# Altium schematic symbol library AUAV-X1_R1.SCHLIB: 36 symbols
Pins are listed as number, name and electrical type; pins without a type are passive.

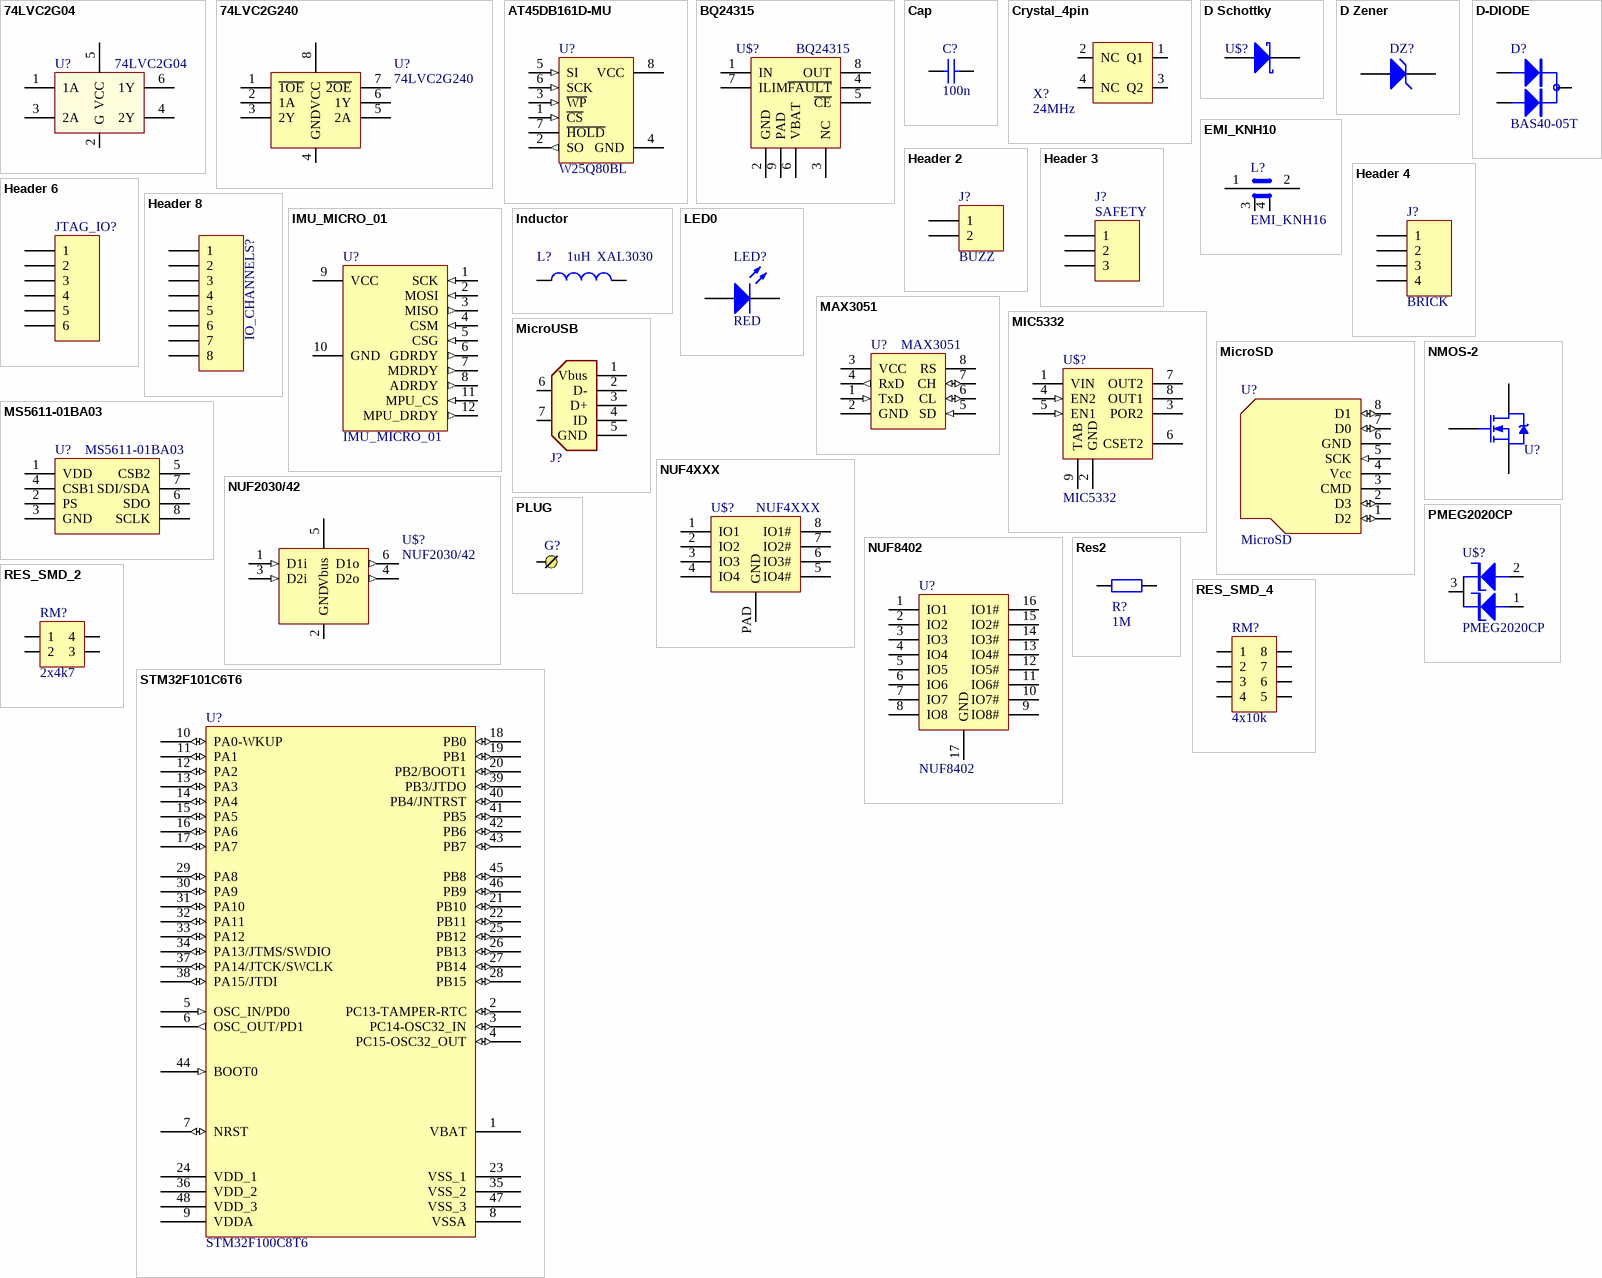
[diagram p0: symbols 74LVC2G04 to STM32F101C6T6]

## 74LVC2G04
designator U?
footprint SOT363_L (SOT363, 6-Leads, Body 2x1.3mm, Pitch 0.65mm, Lead Span 2.1mm, IPC High Density)
pins: 1 1A, 2 G (power), 3 2A, 4 2Y, 5 VCC (power), 6 1Y

## 74LVC2G240
designator U?
footprint VSON8
pins: 1 ~{1OE}, 2 1A, 3 2Y, 4 GND, 5 2A, 6 1Y, 7 ~{2OE}, 8 VCC

## AT45DB161D-MU
designator U?, comment W25Q80BL
footprint W25Q80BL_WSON5X6
pins: 1 ~{CS} (in), 2 SO (out), 3 ~{WP} (in), 4 GND (power), 5 SI (in), 6 SCK (in), 7 ~{HOLD}, 8 VCC (power)

## BQ24315
designator U$?
footprint BQ24315
pins: 1 IN (power), 2 GND, 3 NC, 4 ~{FAULT}, 5 ~{CE}, 6 VBAT, 7 ILIM, 8 OUT, 9 PAD

## Cap
designator C?, comment 100n
Capacitor; Value: 100pF; Published: 8-Jun-2000; LatestRevisionDate: 17-Jul-2002; LatestRevisionNote: Re-released for DXP Platform.; PackageReference: RAD-0.3; Publisher: Altium Limited
simulation model CAP (Capacitor)
signal-integrity model Cap
footprint 0402
footprint 0402A
pins: 1, 2

## Crystal_4pin
designator X?, comment 24MHz
footprint Crystal_2.5x2
pins: 1 Q1, 2 NC, 3 Q2, 4 NC

## D Schottky
designator U$?  (value not drawn)
Schottky Diode; Published: 8-Jun-2000; LatestRevisionDate: 17-Jul-2002; LatestRevisionNote: Re-released for DXP Platform.; PackageReference: SMB; Publisher: Altium Limited; Code_JEDEC: DO-214-AA
footprint SOD323F
simulation model SKYDIODE (Diode)
signal-integrity model D Schottky
pins: 1 A, 2 K

## D Zener
designator DZ?  (value not drawn)
Zener Diode; Published: 8-Jun-2000; LatestRevisionDate: 17-Jul-2002; LatestRevisionNote: Re-released for DXP Platform.; PackageReference: DIODE-0.7; Publisher: Altium Limited
footprint SOD-523
simulation model ZENER (Diode)
signal-integrity model D Zener
pins: 1 A, 2 K

## D-DIODE
designator D?, comment BAS40-05T
footprint SOT-523
pins: 1, 2, 3

## EMI_KNH10
designator L?, comment EMI_KNH16
footprint EMI_KNH16_0603
pins: 1 L1, 2 L2, 3 G (power), 4 G

## Header 2
designator J?, comment BUZZ
Header, 2-Pin; LatestRevisionDate: 17-Jul-2002; LatestRevisionNote: Re-released for DXP Platform.; Publisher: Altium Limited
footprint HDR1X2 (Connector; Header; 2 Position)
signal-integrity model Connector
pins: 1, 2

## Header 3
designator J?, comment SAFETY
Header, 3-Pin; LatestRevisionDate: 17-Jul-2002; LatestRevisionNote: Re-released for DXP Platform.; Publisher: Altium Limited
signal-integrity model Connector
footprint HDR1X3 (Connector; Header; 3 Position)
pins: 1, 2, 3

## Header 4
designator J?, comment BRICK
Header, 4-Pin; LatestRevisionDate: 17-Jul-2002; LatestRevisionNote: Re-released for DXP Platform.; Publisher: Altium Limited
footprint HDR1X4 (Connector; Header; 4 Position)
signal-integrity model Connector
pins: 1, 2, 3, 4

## Header 6
designator JTAG_IO?  (value not drawn)
Header, 6-Pin; LatestRevisionDate: 17-Jul-2002; LatestRevisionNote: Re-released for DXP Platform.; Publisher: Altium Limited
footprint JTAG_TC2030
signal-integrity model Connector
pins: 1, 2, 3, 4, 5, 6

## Header 8
designator IO_CHANNELS?  (value not drawn)
Header, 8-Pin; LatestRevisionDate: 17-Jul-2002; LatestRevisionNote: Re-released for DXP Platform.; Publisher: Altium Limited
footprint HDR1X8 (Connector; Header; 8 Position)
signal-integrity model Connector
pins: 1, 2, 3, 4, 5, 6, 7, 8

## IMU_MICRO_01
designator U?
footprint MicroIMU_01
pins: 1 SCK (in), 2 MOSI (in), 3 MISO (out), 4 CSM (in), 5 CSG (in), 6 GDRDY (out), 7 MDRDY (out), 8 ADRDY (out), 9 VCC (power), 10 GND (power), 11 MPU_CS (in), 12 MPU_DRDY (out)

## Inductor
designator L?, comment XAL3030  value 1uH
Inductor; Code_IEC: 1005; Published: 8-Jun-2000; LatestRevisionDate: 17-Jul-2002; LatestRevisionNote: Re-released for DXP Platform.; PackageReference: 0402-A; Publisher: Altium Limited; Code_JEITA: 0402
simulation model INDUCTOR (Inductor)
signal-integrity model Inductor
footprint XAL4040
pins: 1, 2

## LED0
designator LED?, comment RED
Typical INFRARED GaAs LED; Published: 8-Jun-2000; LatestRevisionDate: 08-Jul-2005; LatestRevisionNote: Mech Layer 1 removed.; PackageReference: LED-0; Publisher: Altium Limited
footprint 0603
simulation model LED0 (Diode)
footprint 0603A
pins: 1 A, 2 K

## MAX3051
designator U?
footprint SOT-23-8
pins: 1 TxD (in), 2 GND (power), 3 VCC (power), 4 RxD (out), 5 SD (in), 6 CL (io), 7 CH (io), 8 RS

## MIC5332
designator U$?
footprint MIC5332
pins: 1 VIN (power), 2 GND (power), 3 POR2, 4 EN2 (in), 5 EN1 (in), 6 CSET2, 7 OUT2, 8 OUT1, 9 TAB (power)

## MicroSD
designator U?
footprint MicroSD_China_01
pins: 1 D2 (io), 2 D3 (io), 3 CMD, 4 Vcc (power), 5 SCK (in), 6 GND (power), 7 D0 (io), 8 D1 (io)

## MicroUSB
designator J?, comment miniUSB  (value not drawn)
footprint USBmicro_B
pins: 1 Vbus (power), 2 D-, 3 D+, 4 ID, 5 GND (power), 6 GND, 7 GND

## MS5611-01BA03
designator U?
footprint MS5611
pins: 1 VDD (power), 2 PS, 3 GND (power), 4 CSB1, 5 CSB2, 6 SDO, 7 SDI/SDA, 8 SCLK

## NMOS-2
designator U?, comment ZXMN2F34MA  (value not drawn)
N-Channel Power MOSFET; Note: Pin 2 is electrically connected to pin 4.; Published: 8-Jun-2000; LatestRevisionDate: 17-Jul-2002; LatestRevisionNote: Re-released for DXP Platform.; DatasheetDocument: PD-9.814; PackageReference: TO-220AB; Publisher: Altium Limited; Code_JEDEC: TO-220-AB; ComponentLink1Description: Manufacturer Link; ComponentLink1URL: http://www.irf.com/
simulation model IRF1010 (Spice Subcircuit)
footprint 2N7002-SOT323
pins: 1 D, 2 S, 3 G

## NUF4XXX
designator U$?
footprint NUF4211
pins: 1 IO1, 2 IO2, 3 IO3, 4 IO4, 5 IO4#, 6 IO3#, 7 IO2#, 8 IO1#, PAD GND

## NUF2030/42
designator U$?
footprint NUF2030_SOT563
pins: 1 D1i (in), 2 GND (power), 3 D2i (in), 4 D2o (out), 5 Vbus (power), 6 D1o (out)

## NUF8402
designator U?
footprint NUF8402
pins: 1 IO1, 2 IO2, 3 IO3, 4 IO4, 5 IO5, 6 IO6, 7 IO7, 8 IO8, 9 IO8#, 10 IO7#, 11 IO6#, 12 IO5# (oc), 13 IO4# (oc), 14 IO3# (oc), 15 IO2#, 16 IO1#, 17 GND

## PLUG
designator G?  (value not drawn)
footprint PAD
footprint SMT_PAD_ROUND
pins: 1

## PMEG2020CP
designator U$?
footprint pmeg2020cp
pins: 1, 2, 3

## Res2
designator R?, comment 1M
Resistor; Value: 1K; Published: 8-Jun-2000; LatestRevisionDate: 17-Jul-2002; LatestRevisionNote: Re-released for DXP Platform.; PackageReference: AXIAL-0.4; Publisher: Altium Limited
simulation model RESISTOR (Resistor)
signal-integrity model Res
footprint 0402
footprint 0402A
pins: 1, 2

## RES_SMD_2
designator RM?, comment 2x4k7
footprint RM2_0804
pins: 1, 2, 3, 4

## RES_SMD_4
designator RM?, comment 4x10k
footprint RM4_0804
pins: 1, 2, 3, 4, 5, 6, 7, 8

## STM32F101C6T6
designator U?, comment STM32F100C8T6
STM32 ARM-based 32-bit MCU with 32 Kbytes Flash, 48-pin LQFP, Industrial Temperature; Published: 30-May-2008; DatasheetVersion: rev6, Mar-2008; PackageVersion: Mar-2008; PackageReference: LQFP48; Publisher: Altium Limited; PackageDescription: 48-Pin Low-Profile Quad Flat Pack, 7 x 7 mm Body, 0.5 mm Pitch (LQFP48); ComponentLink1Description: Manufacturer Link; ComponentLink1URL: www.st.com/stm32; ComponentLink2Description: Datasheet; ComponentLink2URL: http://www.st.com/stonline/products/literature/ds/13586.pdf
footprint LQFP48_N (Thin QFP, 48-Leads, Body 7x7mm, Pitch 0.5mm, IPC Medium Density)
footprint LQFP48_L (Thin QFP, 48-Leads, Body 7x7mm, Pitch 0.5mm, IPC High Density)
footprint LQFP48_M (Thin QFP, 48-Leads, Body 7x7mm, Pitch 0.5mm, IPC Low Density)
pins: 1 VBAT (power), 2 PC13-TAMPER-RTC (io), 3 PC14-OSC32_IN (io), 4 PC15-OSC32_OUT (io), 5 OSC_IN/PD0 (in), 6 OSC_OUT/PD1 (out), 7 NRST (io), 8 VSSA (power), 9 VDDA (power), 10 PA0-WKUP (io), 11 PA1 (io), 12 PA2 (io), 13 PA3 (io), 14 PA4 (io), 15 PA5 (io), 16 PA6 (io), 17 PA7 (io), 18 PB0 (io), 19 PB1 (io), 20 PB2/BOOT1 (io), 21 PB10 (io), 22 PB11 (io), 23 VSS_1 (power), 24 VDD_1 (power), 25 PB12 (io), 26 PB13 (io), 27 PB14 (io), 28 PB15 (io), 29 PA8 (io), 30 PA9 (io), 31 PA10 (io), 32 PA11 (io), 33 PA12 (io), 34 PA13/JTMS/SWDIO (io), 35 VSS_2 (power), 36 VDD_2 (power), 37 PA14/JTCK/SWCLK (io), 38 PA15/JTDI (io), 39 PB3/JTDO (io), 40 PB4/JNTRST (io), 41 PB5 (io), 42 PB6 (io), 43 PB7 (io), 44 BOOT0 (in), 45 PB8 (io), 46 PB9 (io), 47 VSS_3 (power), 48 VDD_3 (power)

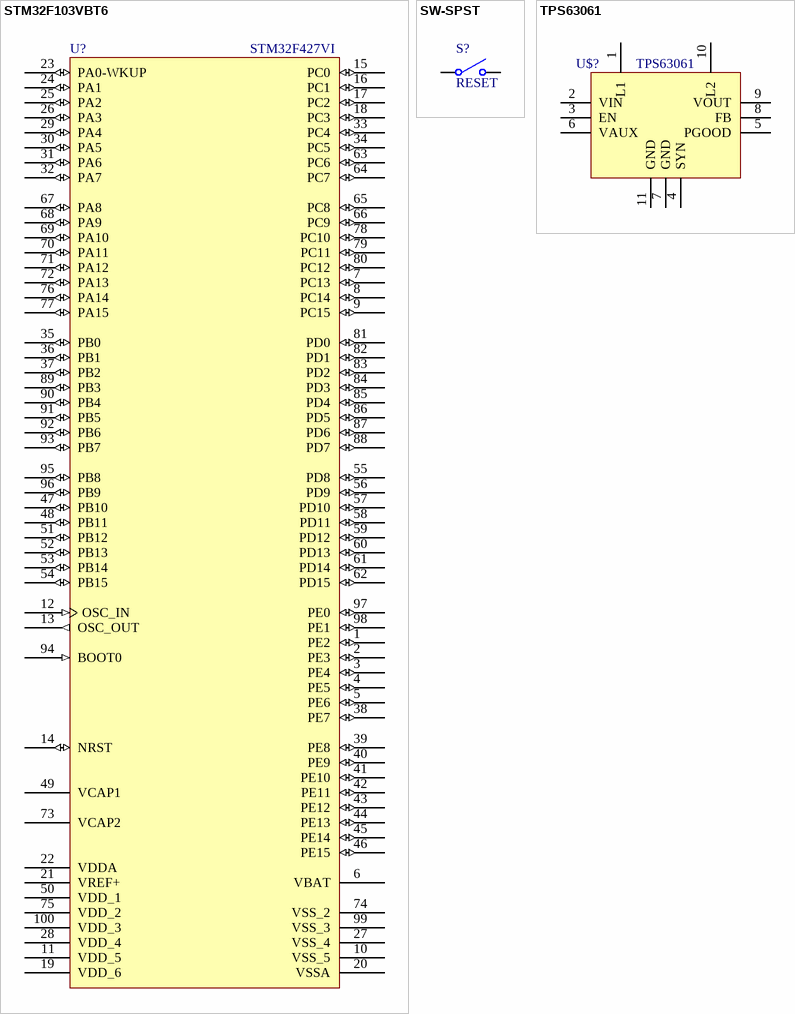
[diagram p1: symbols STM32F103VBT6 to TPS63061]

## STM32F103VBT6
designator U?, comment STM32F427VI
STM32 ARM-based 32-bit MCU with 64 Kbytes Flash, 100-pin LQFP, Industrial Temperature; Published: 30-May-2008; DatasheetVersion: rev6, Mar-2008; PackageVersion: Mar-2008; PackageReference: LQFP100; Publisher: Altium Limited; PackageDescription: 100-Pin Low-Profile Quad Flat Pack, 14 x 14 mm Body, 0.5 mm Pitch (LQFP100); ComponentLink1Description: Manufacturer Link; ComponentLink1URL: www.st.com/stm32; ComponentLink2Description: Datasheet; ComponentLink2URL: http://www.st.com/stonline/products/literature/ds/13587.pdf
footprint LQFP100_N (Thin QFP, 100-Leads, Body 14x14mm, Pitch 0.5mm, IPC Medium Density)
footprint LQFP100_L (Thin QFP, 100-Leads, Body 14x14mm, Pitch 0.5mm, IPC High Density)
footprint LQFP100_M (Thin QFP, 100-Leads, Body 14x14mm, Pitch 0.5mm, IPC Low Density)
pins: 1 PE2 (io), 2 PE3 (io), 3 PE4 (io), 4 PE5 (io), 5 PE6 (io), 6 VBAT (power), 7 PC13 (io), 8 PC14 (io), 9 PC15 (io), 10 VSS_5 (power), 11 VDD_5 (power), 12 OSC_IN (in), 13 OSC_OUT (out), 14 NRST (io), 15 PC0 (io), 16 PC1 (io), 17 PC2 (io), 18 PC3 (io), 19 VDD_6 (power), 20 VSSA (power), 21 VREF+ (power), 22 VDDA (power), 23 PA0-WKUP (io), 24 PA1 (io), 25 PA2 (io), 26 PA3 (io), 27 VSS_4 (power), 28 VDD_4 (power), 29 PA4 (io), 30 PA5 (io), 31 PA6 (io), 32 PA7 (io), 33 PC4 (io), 34 PC5 (io), 35 PB0 (io), 36 PB1 (io), 37 PB2 (io), 38 PE7 (io), 39 PE8 (io), 40 PE9 (io), 41 PE10 (io), 42 PE11 (io), 43 PE12 (io), 44 PE13 (io), 45 PE14 (io), 46 PE15 (io), 47 PB10 (io), 48 PB11 (io), 49 VCAP1, 50 VDD_1 (power), 51 PB12 (io), 52 PB13 (io), 53 PB14 (io), 54 PB15 (io), 55 PD8 (io), 56 PD9 (io), 57 PD10 (io), 58 PD11 (io), 59 PD12 (io), 60 PD13 (io), 61 PD14 (io), 62 PD15 (io), 63 PC6 (io), 64 PC7 (io), 65 PC8 (io), 66 PC9 (io), 67 PA8 (io), 68 PA9 (io), 69 PA10 (io), 70 PA11 (io), 71 PA12 (io), 72 PA13 (io), 73 VCAP2, 74 VSS_2 (power), 75 VDD_2 (power), 76 PA14 (io), 77 PA15 (io), 78 PC10 (io), 79 PC11 (io), 80 PC12 (io), 81 PD0 (io), 82 PD1 (io), 83 PD2 (io), 84 PD3 (io), 85 PD4 (io), 86 PD5 (io), 87 PD6 (io), 88 PD7 (io), 89 PB3 (io), 90 PB4 (io), 91 PB5 (io), 92 PB6 (io), 93 PB7 (io), 94 BOOT0 (in), 95 PB8 (io), 96 PB9 (io), 97 PE0 (io), 98 PE1 (io), 99 VSS_3 (power), 100 VDD_3 (power)

## SW-SPST
designator S?, comment RESET
Single-Pole, Single-Throw Switch; Published: 24-Mar-1999; LatestRevisionDate: 17-Jul-2002; LatestRevisionNote: Re-released for DXP Platform.; PackageReference: SPST-2; Publisher: Altium Limited
footprint OMRON_B3U_V
pins: 1 COMMON, 2 NO

## TPS63061
designator U$?
footprint TPS63061
pins: 1 L1, 2 VIN, 3 EN, 4 SYN, 5 PGOOD, 6 VAUX, 7 GND, 8 FB, 9 VOUT, 10 L2, 11 GND